# EAGLE library part TPS63051RMWT (library SamacSys_Parts)
Switching Voltage Regulators Tiny Single Ind Buck Boost Convter Source: Datasheet <http://www.ti.com/general/docs/lit/getliterature.tsp?genericPartNumber=TPS63051&&fileType=pdf>
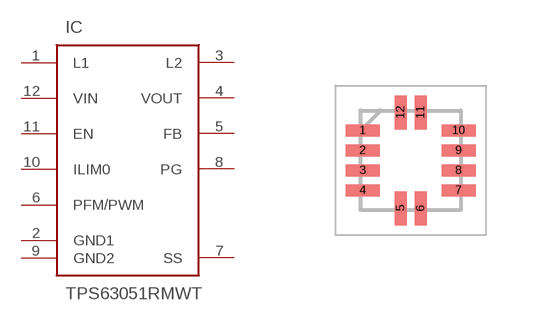
[diagram p0: symbol with the pads of QFN50P250X250X100-12N; footprint QFN50P250X250X100-12N]

Designator prefix IC

## TPS63051RMWT (ARROW_PART_NUMBER: TPS63051RMWT; ARROW_PRICE/STOCK: https://www.arrow.com/en/products/tps63051rmwt/texas-instruments; DESCRIPTION: Switching Voltage Regulators Tiny Single Ind Buck Boost Convter; HEIGHT: 1mm; MANUFACTURER_NAME: Texas Instruments; MANUFACTURER_PART_NUMBER: TPS63051RMWT; RS_PART_NUMBER: 1330763; RS_PRICE/STOCK: http://uk.rs-online.com/web/p/products/1330763)  [QFN50P250X250X100-12N]
1  L1
2  GND1
3  L2
4  VOUT
5  FB
6  PFM/PWM
7  SS
8  PG
9  GND2
10  ILIM0
11  EN
12  VIN

## Footprint QFN50P250X250X100-12N (pad centres in mm)
RMW0012A
smd 0.85 x 0.3: 1 -1.2,0.75; 2 -1.2,0.25; 3 -1.2,-0.25; 4 -1.2,-0.75; 7 1.2,-0.75; 8 1.2,-0.25; 9 1.2,0.25; 10 1.2,0.75
smd 0.3 x 0.85: 5 -0.25,-1.2; 6 0.25,-1.2; 11 0.25,1.2; 12 -0.25,1.2